# EAGLE library part JST6 (library robotter)
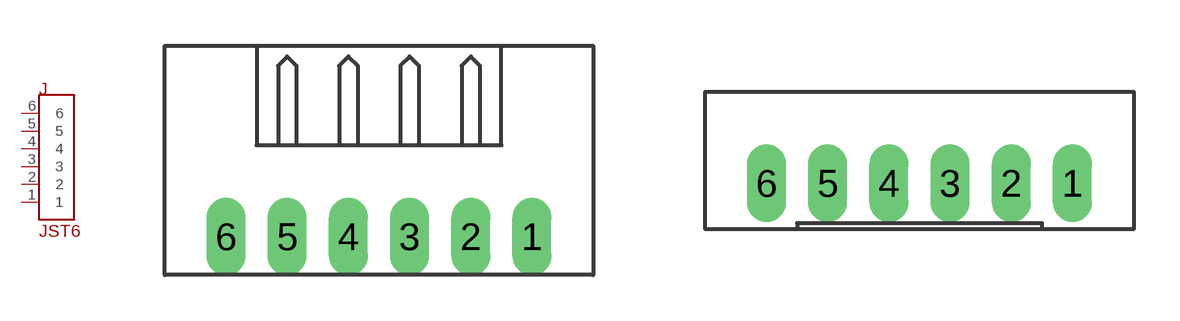
[diagram p6: symbol with the pads of S6B-PH-K-S; footprints S6B-PH-K-S, B6B-PH-K-S]

Designator prefix J

## JST6S6B-PH-K-S  [S6B-PH-K-S]
1  1
2  2
3  3
4  4
5  5
6  6

## JST6B6B-PH-K-S  [B6B-PH-K-S]
Pads as for S6B-PH-K-S

## Footprint S6B-PH-K-S (pad centres in mm)
drill 0.7 pad 1.27 long: 1 5,0; 2 3,0; 3 1,0; 4 -1,0; 5 -3,0; 6 -5,0

## Footprint B6B-PH-K-S (pad centres in mm)
drill 0.7 pad 1.27 long: 1 5,0; 2 3,0; 3 1,0; 4 -1,0; 5 -3,0; 6 -5,0